# EAGLE library part BQ2000TTS (library texas)
CHARGE MANAGEMENT IC
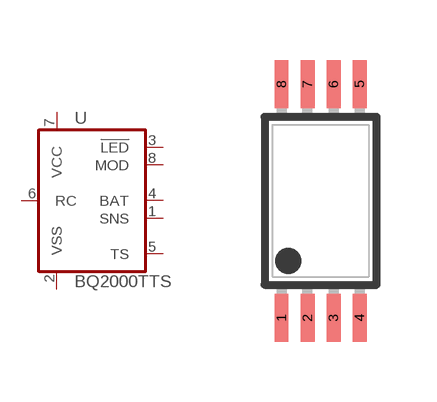
[diagram p11: symbol with the pads of TSSOP8; footprint TSSOP8]

Designator prefix U

## BQ2000TTS  [TSSOP8]
1  SNS  in
2  VSS  pwr
3  !LED  out
4  BAT  in
5  TS  in
6  RC  in
7  VCC  in
8  MOD  out

## Footprint TSSOP8 (pad centres in mm)
Thin Shrink Small Outline Plastic 8
smd 0.35 x 1.2: 1 -0.975,-2.925; 2 -0.325,-2.925; 3 0.325,-2.925; 4 0.975,-2.925; 5 0.975,2.925; 6 0.325,2.925; 7 -0.325,2.925; 8 -0.975,2.925